# Altium footprint library 61300811821.PcbLib: 1 footprints
Each footprint in its own frame and in the unit in brackets; x right, y up, seen from the top. Pads: shape width x height; smd on the part's side, far side on the other; paste and mask are expansions set on the pad; w line width, h text height; cw(c..) or ccw(c..) is an arc to the next point about the centre after c.
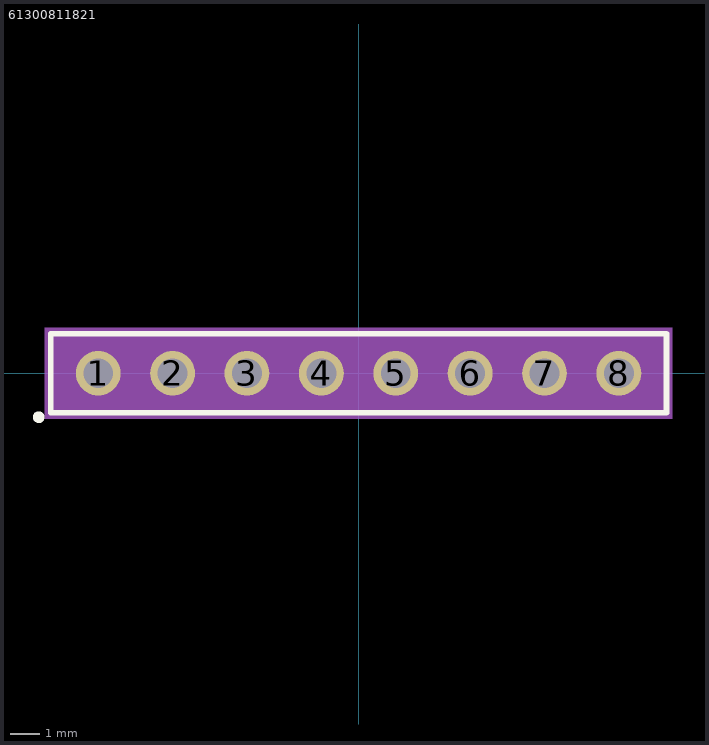
[diagram p0: the footprint, top view; thin cyan lines are the x and y axes]

## 61300811821 [mm]
pads (8):
  round 1.53 hole 1.02: 1(-8.89,0) 2(-6.35,0) 3(-3.81,0) 4(-1.27,0) 5(1.27,0) 6(3.81,0) 7(6.35,0) 8(8.89,0)
Top Overlay:
  circle w0.2: c-10.92,-1.5 r0.1
  lines w0.2: -10.51,-1.35 10.51,-1.35 10.51,1.35 -10.51,1.35 -10.51,-1.35
Assembly Top:
  lines w0.1: -10.41,-1.25 10.41,-1.25 10.41,1.25 -10.41,1.25 -10.41,-1.25
Courtyard Top:
  region: 10.71,-1.55 -10.71,-1.55 -10.71,1.55 10.71,1.55